# EAGLE library part USB-C (library USB)
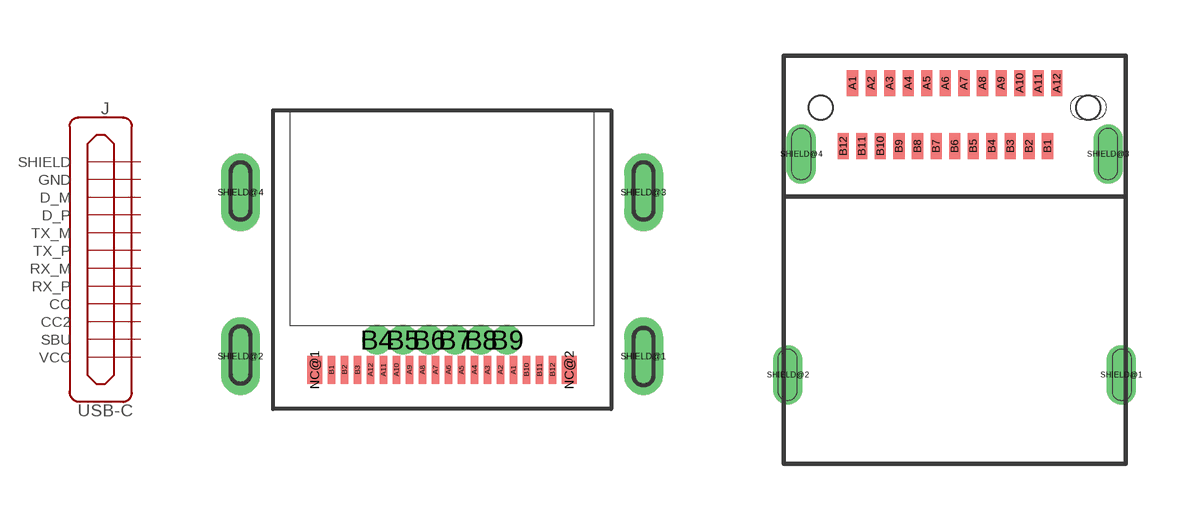
[diagram p0: symbol with the pads of CX70M-24P1; footprints CX70M-24P1, 12401598E4#2A]

Designator prefix J

## USB-C-CX70M-24P1  [CX70M-24P1]
A1  GND  in
A2  TX_P  pas
A3  TX_M  pas
A4  VCC  in
A5  CC  in
A6  D_P  pas
A7  D_M  pas
A8  SBU  pas
A9  VCC  in
A10  RX_M  pas
A11  RX_P  pas
A12  GND  in
B1  GND  in
B2  TX_P  pas
B3  TX_M  pas
B4  VCC  in
B5  CC2  in
B6  D_P  pas
B7  D_M  pas
B8  SBU  pas
B9  VCC  in
B10  RX_M  pas
B11  RX_P  pas
B12  GND  in
SHIELD@1  SHIELD  pas
SHIELD@2  SHIELD  pas
SHIELD@3  SHIELD  pas
SHIELD@4  SHIELD  pas

## USB-C-12401598E4#2A  [12401598E4#2A]
Pads as for CX70M-24P1

## Footprint CX70M-24P1 (pad centres in mm)
HiRose CX70M-24P1 USB-C Receiptcle
smd 0.23 x 0.85: A1 2.2,-8; A2 1.8,-8; A3 1.4,-8; A4 1,-8; A5 0.6,-8; A6 0.2,-8; A7 -0.2,-8; A8 -0.6,-8; A9 -1,-8; A10 -1.4,-8; A11 -1.8,-8; A12 -2.2,-8; B1 -3.4,-8; B2 -3,-8; B3 -2.6,-8; B10 2.6,-8; B11 3,-8; B12 3.4,-8
drill 0.4 pad 0.6: B4 -2,-7.075; B5 -1.2,-7.075; B6 -0.4,-7.075; B7 0.4,-7.075; B8 1.2,-7.075; B9 2,-7.075
smd 0.46 x 0.85: NC@1 -3.915,-8; NC@2 3.915,-8
drill 0.6 pad 1.2 long: SHIELD@1 6.2,-7.575; SHIELD@2 -6.2,-7.575; SHIELD@3 6.2,-2.525; SHIELD@4 -6.2,-2.525

## Footprint 12401598E4#2A (pad centres in mm)
Amphenol 12401598E4#2A USB-C Receiptcle
smd 0.3 x 0.7: A1 -2.75,0.66; A2 -2.25,0.66; A3 -1.75,0.66; A4 -1.25,0.66; A5 -0.75,0.66; A6 -0.25,0.66; A7 0.25,0.66; A8 0.75,0.66; A9 1.25,0.66; A10 1.75,0.66; A11 2.25,0.66; A12 2.75,0.66; B1 2.5,-1.04; B2 2,-1.04; B3 1.5,-1.04; B4 1,-1.04; B5 0.5,-1.04; B6 0,-1.04; B7 -0.5,-1.04; B8 -1,-1.04; B9 -1.5,-1.04; B10 -2,-1.04; B11 -2.5,-1.04; B12 -3,-1.04
drill 0.25 pad 0.8 long: SHIELD@1 4.49,-7.2; SHIELD@2 -4.49,-7.2; SHIELD@3 4.13,-1.25; SHIELD@4 -4.13,-1.25
hole 0.65 at -3.6,0
hole 0.65 at 3.6,0